# Altium footprint library KNOOBS.PcbLib: 1 footprints
Each footprint in its own frame and in the unit in brackets; x right, y up, seen from the top. Pads: shape width x height; smd on the part's side, far side on the other; paste and mask are expansions set on the pad; w line width, h text height; cw(c..) or ccw(c..) is an arc to the next point about the centre after c.
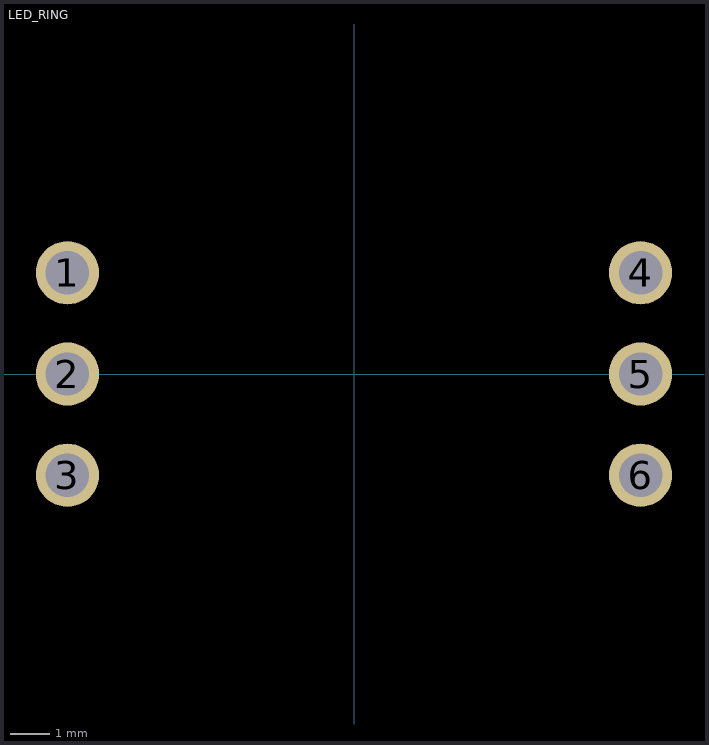
[diagram p0: the footprint, top view; thin cyan lines are the x and y axes]

## LED_RING [mm]
pads (6):
  round 1.6 hole 1.1 unplated paste-2539.97: 1(-7.25,2.56) 2(-7.25,0) 3(-7.25,-2.56) 4(7.25,2.56) 5(7.25,0) 6(7.25,-2.56)
3D body "POT_LEDS v2.step": height 9.81, standoff -3, extent -13.493,-22.802 13.493,4.191